# Altium footprint library Resistors_SMD.PcbLib: 11 footprints
Each footprint in its own frame and in the unit in brackets; x right, y up, seen from the top. Pads: shape width x height; smd on the part's side, far side on the other; paste and mask are expansions set on the pad; w line width, h text height; cw(c..) or ccw(c..) is an arc to the next point about the centre after c.
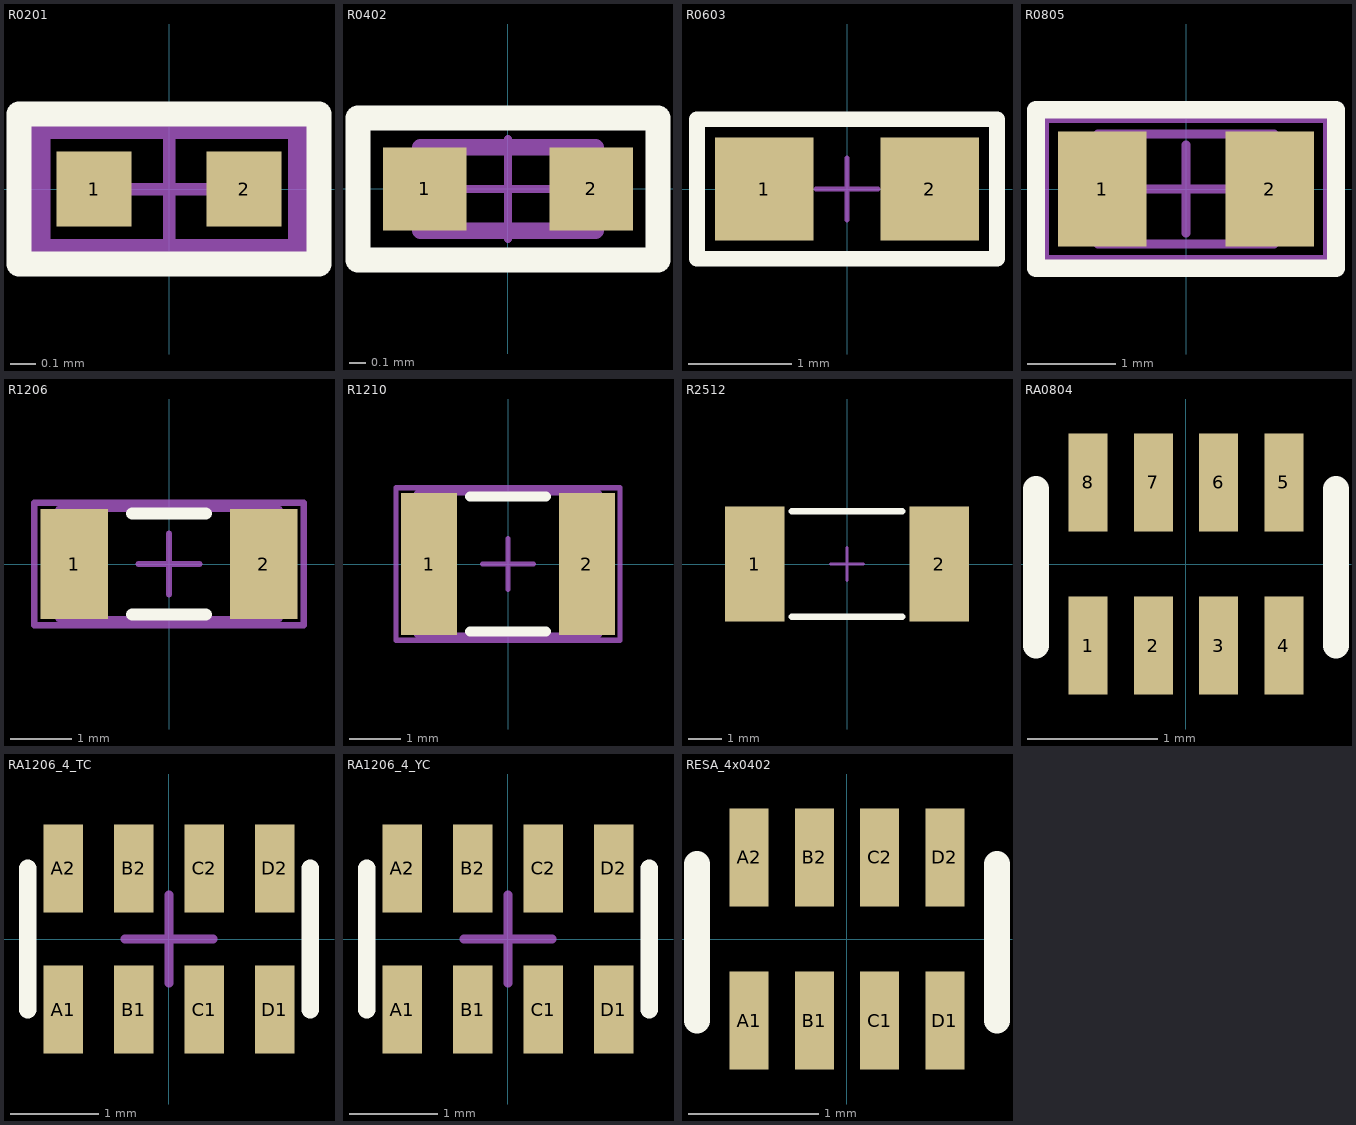
[diagram p0: the footprints below, top view; thin cyan lines are the x and y axes]

## R0201 [mm] "Chip Resistor"
height 0.23
pads (2):
  rect 0.3x0.3 smd: 1(-0.3,0) 2(0.3,0)
Top Overlay:
  lines w0.1: -0.6,-0.3 0.6,-0.3 0.6,0.3 -0.6,0.3 -0.6,-0.3
Mechanical 13:
  lines w0.1: -0.525,-0.25 -0.525,0.25 0.525,0.25 0.525,-0.25 -0.525,-0.25
Mechanical 15:
  lines w0.05: -0.3,0 0.3,0 ; 0,-0.3 0,0.3 ; -0.6,-0.3 -0.6,0.3 0.6,0.3 0.6,-0.3 -0.6,-0.3
3D body "rsmd-0201_l0-6_w0-3_h0-23.stp": height 0.23, standoff 0, extent -0.3,-0.15 0.3,0.15

## R0402 [mm] "Chip Resistor"
height 0.35
pads (2):
  rect 0.5x0.5 smd: 1(-0.5,0) 2(0.5,0)
Top Overlay:
  lines w0.15: -0.9,-0.425 0.9,-0.425 0.9,0.425 -0.9,0.425 -0.9,-0.425
Mechanical 13:
  lines w0.1: -0.525,-0.25 -0.525,0.25 0.525,0.25 0.525,-0.25 -0.525,-0.25
Mechanical 15:
  lines w0.05: -0.3,0 0.3,0 ; 0,-0.3 0,0.3 ; -0.9,-0.425 -0.9,0.425 0.9,0.425 0.9,-0.425 -0.9,-0.425
3D body "R0402.STEP": height 0.3, standoff 0, extent -0.5,-0.25 0.5,0.25

## R0603 [mm] "Chip Resistor"
height 0.45
pads (2):
  rect 0.95x1 smd: 1(-0.8,0) 2(0.8,0)
Top Overlay:
  lines w0.15: -1.45,-0.675 -1.45,0.675 1.45,0.675 1.45,-0.675 -1.45,-0.675
Mechanical 15:
  lines w0.05: -0.3,0 0.3,0 ; 0,-0.3 0,0.3 ; -1.45,-0.675 1.425,-0.675 1.425,0.675 -1.45,0.675 -1.45,-0.675
3D body "0603 SMD Resistor.STEP": height 0.3, standoff 0, extent -0.8,-0.4 0.8,0.4

## R0805 [mm] "Chip Resistor"
height 0.5
pads (2):
  rect 1x1.3 smd: 1(-0.95,0) 2(0.95,0)
Top Overlay:
  lines w0.2: -1.7,-0.9 1.7,-0.9 1.7,0.9 -1.7,0.9 -1.7,-0.9
Mechanical 13:
  lines w0.1: -1,-0.625 1,-0.625 1,0.625 -1,0.625 -1,-0.625
Mechanical 15:
  lines w0.1: -0.5,0 0.5,0 ; 0,-0.5 0,0.5 ; -1.6,-0.8 -1.6,0.8 1.6,0.8 1.6,-0.8 -1.6,-0.8
3D body "0805 SMD Resistor.STEP": height 0.5, standoff 0, extent -1,-0.625 1,0.625

## R1206 [mm] "Chip Resistor"
height 0.55
pads (2):
  rect 1.1x1.8 smd: 1(-1.55,0) 2(1.55,0)
Top Overlay:
  lines w0.2: -0.6,-0.825 0.6,-0.825 ; -0.6,0.825 0.6,0.825
Mechanical 13:
  lines w0.1: -1.8,-0.9 -1.8,0.9 1.8,0.9 1.8,-0.9 -1.8,-0.9
Mechanical 15:
  lines w0.1: -0.5,0 0.5,0 ; 0,-0.5 0,0.5 ; -2.2,-1 2.2,-1 2.2,1 -2.2,1 -2.2,-1
3D body "1206 SMD Resistor.STEP": height 1, standoff 0, extent -1.6,-0.8 1.6,0.8

## R1210 [mm] "Chip Resistor"
height 0.55
pads (2):
  rect 1.1x2.8 smd: 1(-1.55,0) 2(1.55,0)
Top Overlay:
  lines w0.2: -0.75,-1.325 0.75,-1.325 ; -0.75,1.325 0.75,1.325
Mechanical 13:
  lines w0.1: -1.8,-1.4 -1.8,1.4 1.8,1.4 1.8,-1.4 -1.8,-1.4
Mechanical 15:
  lines w0.1: -0.5,0 0.5,0 ; 0,-0.5 0,0.5 ; -2.2,-1.5 -2.2,1.5 2.2,1.5 2.2,-1.5 -2.2,-1.5
3D body "Resistor 1210.step": height 0.5, standoff 0, extent -1.85,-1.3 1.85,1.3

## R2512 [mm] "Chip Resistor"
height 0.55
pads (2):
  rect 1.8x3.5 smd: 1(-2.8,0) 2(2.8,0)
Top Overlay:
  lines w0.2: -1.675,-1.6 1.675,-1.6 ; -1.675,1.6 1.675,1.6
Mechanical 15:
  lines w0.1: -0.5,0 0.5,0 ; 0,-0.5 0,0.5
3D body "R2512.STEP": height 0.47, standoff 0, extent -3.175,-1.601 3.175,1.601

## RA0804 [mm] "Chip Resistor array, 4x0402 Body 2x1mm"
height 0.45
pads (8):
  rect 0.3x0.75 smd: 1(-0.75,-0.625) 2(-0.25,-0.625) 3(0.25,-0.625) 4(0.75,-0.625) 5(0.75,0.625) 6(0.25,0.625) 7(-0.25,0.625) 8(-0.75,0.625)
Top Overlay:
  lines w0.2: -1.15,-0.625 -1.15,0.575 ; 1.15,-0.625 1.15,0.575
3D body "YC124.STEP": height 0.45, standoff 0, extent -1,-0.5 1,0.5

## RA1206_4_TC [mm] "Chip Resistor array, 4x0402 Body 2x1mm"
height 0.45
pads (8):
  rect 0.45x1 smd: A1(-1.2,-0.8) A2(-1.2,0.8) B1(-0.4,-0.8) B2(-0.4,0.8) C1(0.4,-0.8) C2(0.4,0.8) D1(1.2,-0.8) D2(1.2,0.8)
Top Overlay:
  lines w0.2: -1.6,-0.8 -1.6,0.8 ; 1.6,-0.8 1.6,0.8
Mechanical 15:
  lines w0.1: -0.5,0 0.5,0 ; 0,-0.5 0,0.5
3D body "1206 TC164 Concave.step": height 0.6, standoff 0, extent -1.6,-0.8 1.6,0.8

## RA1206_4_YC [mm] "Chip Resistor array, 4x0402 Body 2x1mm"
height 0.45
pads (8):
  rect 0.45x1 smd: A1(-1.2,-0.8) A2(-1.2,0.8) B1(-0.4,-0.8) B2(-0.4,0.8) C1(0.4,-0.8) C2(0.4,0.8) D1(1.2,-0.8) D2(1.2,0.8)
Top Overlay:
  lines w0.2: -1.6,-0.8 -1.6,0.8 ; 1.6,-0.8 1.6,0.8
Mechanical 15:
  lines w0.1: -0.5,0 0.5,0 ; 0,-0.5 0,0.5
3D body "1206 YC164 Convex.step": height 0.6, standoff 0, extent -1.6,-0.8 1.6,0.8

## RESA_4x0402 [mm] "Chip Resistor, Body 1.1x0.5mm, IPC High Density"
height 0.55
pads (8):
  rect 0.3x0.75 smd: A1(-0.75,-0.625) A2(-0.75,0.625) B1(-0.25,-0.625) B2(-0.25,0.625) C1(0.25,-0.625) C2(0.25,0.625) D1(0.75,-0.625) D2(0.75,0.625)
Top Overlay:
  lines w0.2: -1.15,-0.625 -1.15,0.575 ; 1.15,-0.625 1.15,0.575
3D body: height 0.55, standoff 0, extent -0.95,-0.525 0.95,0.475